# EAGLE library part PINHD-2X4 (library impedance)
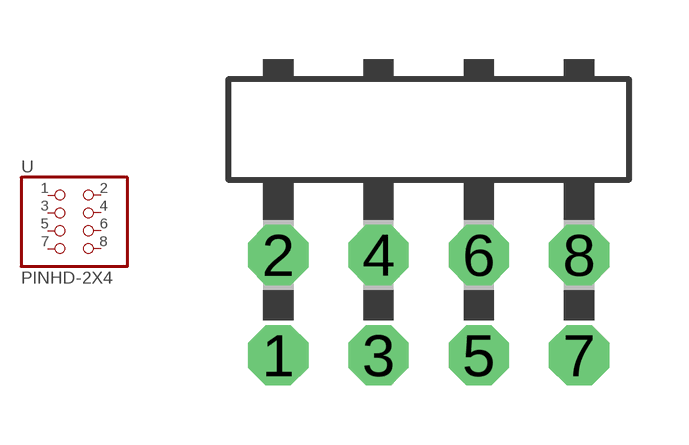
[diagram p5: symbol with the pads of 2X04/90; footprint 2X04/90]

Designator prefix -

## PINHD-2X4  [2X04/90]
1  1  pas
2  2  pas
3  3  pas
4  4  pas
5  5  pas
6  6  pas
7  7  pas
8  8  pas

## Footprint 2X04/90 (pad centres in mm)
drill 1.016 octagon: 1 -3.81,-2.54; 2 -3.81,0; 3 -1.27,-2.54; 4 -1.27,0; 5 1.27,-2.54; 6 1.27,0; 7 3.81,-2.54; 8 3.81,0